# EAGLE library part TXB0104 (library custom-devices)
4x Channel Level-Shifter
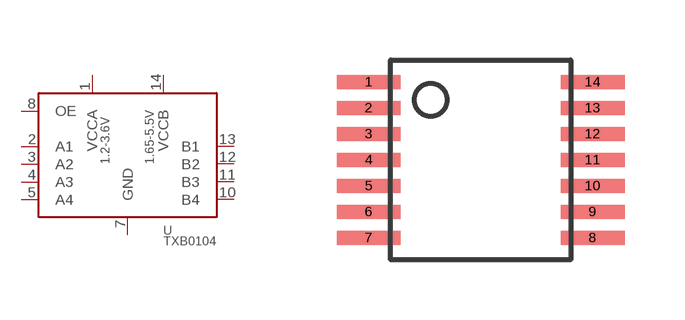
[diagram p19: symbol with the pads of TSSOP14; footprint TSSOP14]

Designator prefix U

## TXB0104_PW (DIGI-KEY: 296-21929-1-ND; MOUSER: 595-TXB0104QPWRQ1)  [TSSOP14]
1  VCCA  pwr
2  A1
3  A2
4  A3
5  A4
7  GND  pwr
8  OE
10  B4
11  B3
12  B2
13  B1
14  VCCB  pwr

## Footprint TSSOP14 (pad centres in mm)
smd 1.6 x 0.35: 1 -2.8,1.95; 2 -2.8,1.3; 3 -2.8,0.65; 4 -2.8,0; 5 -2.8,-0.65; 6 -2.8,-1.3; 7 -2.8,-1.95; 8 2.8,-1.95; 9 2.8,-1.3; 10 2.8,-0.65; 11 2.8,0; 12 2.8,0.65; 13 2.8,1.3; 14 2.8,1.95